# Altium schematic symbol library SchLib.SchLib: 11 symbols
Pins are listed as number, name and electrical type; pins without a type are passive.

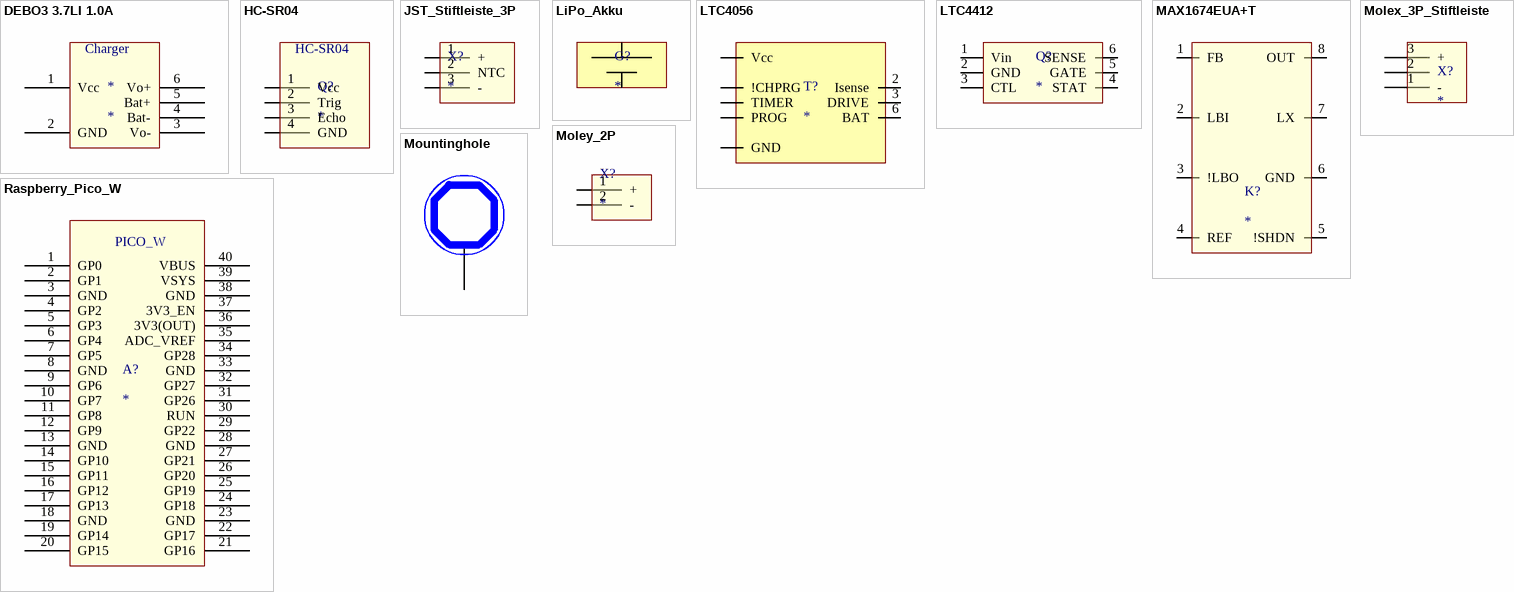
[diagram p0: symbols DEBO3 3.7LI 1.0A to Raspberry_Pico_W]

## DEBO3 3.7LI 1.0A
designator *
footprint TP4056
pins: 1 Vcc, 2 GND, 3 Vo-, 4 Bat-, 5 Bat+, 6 Vo+
text: Charger

## HC-SR04
designator Q?
pins: 1 Vcc, 2 Trig, 3 Echo, 4 GND

## JST_Stiftleiste_3P
designator X?
pins: 1 +, 2 NTC, 3 -

## LiPo_Akku
designator G?
500mA
pins: 1 Vcc, 2 GND

## LTC4056
designator T?
Linear Li-Ion Charger with Termination; Parameter 1: *
pins: 1 Vcc, 2 Isense, 3 DRIVE, 4 GND, 5 PROG, 6 BAT, 7 TIMER, 8 !CHPRG

## LTC4412
designator Q?
Low Loss PowerPath Controller
pins: 1 Vin, 2 GND, 3 CTL, 4 STAT, 5 GATE, 6 SENSE

## MAX1674EUA+T
designator K?
Step-Up DC-DC Converter
pins: 1 FB, 2 LBI, 3 !LBO, 4 REF, 5 !SHDN, 6 GND, 7 LX, 8 OUT

## Molex_3P_Stiftleiste
designator X?
footprint Molex_3P_Stiftleister
pins: 1 -, 2, 3 +

## Moley_2P
designator X?
pins: 1 +, 2 -

## Mountinghole
designator ?
footprint HoleM2.5
pins: ?1

## Raspberry_Pico_W
designator A?
pins: 1 GP0, 2 GP1, 3 GND, 4 GP2, 5 GP3, 6 GP4, 7 GP5, 8 GND, 9 GP6, 10 GP7, 11 GP8, 12 GP9, 13 GND, 14 GP10, 15 GP11, 16 GP12, 17 GP13, 18 GND, 19 GP14, 20 GP15, 21 GP16, 22 GP17, 23 GND, 24 GP18, 25 GP19, 26 GP20, 27 GP21, 28 GND, 29 GP22, 30 RUN, 31 GP26, 32 GP27, 33 GND, 34 GP28, 35 ADC_VREF, 36 3V3(OUT), 37 3V3_EN, 38 GND, 39 VSYS, 40 VBUS
text: PICO_W